# Altium schematic symbol library Schlib.SchLib: 1 symbol
Pins are listed as number, name and electrical type; pins without a type are passive.

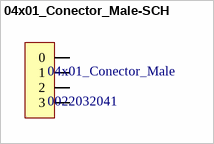
[diagram p0: symbol 04x01_Conector_Male-SCH]

## 04x01_Conector_Male-SCH
designator 04x01_Conector_Male, comment 0022032041
CONN HEADER 4POS .100 VERT TIN
footprint 04x01_Conector_Male-PCB (0022032041)
pins: 0, 1, 2, 3